# EAGLE library part SM08B-ZESS-TB (library senseye)
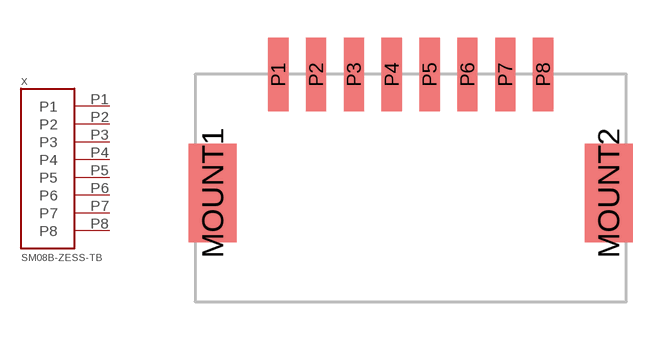
[diagram p4: symbol with the pads of SM08B_8PIN_SMD; footprint SM08B_8PIN_SMD]

Designator prefix X

## SM08B-ZESS-TB  [SM08B_8PIN_SMD]
P1  P1
P2  P2
P3  P3
P4  P4
P5  P5
P6  P6
P7  P7
P8  P8

## Footprint SM08B_8PIN_SMD (pad centres in mm)
smd 1.9 x 3.9: MOUNT1 -7.85,-4.7; MOUNT2 7.85,-4.7
smd 0.8 x 2.9: P1 -5.25,0; P2 -3.75,0; P3 -2.25,0; P4 -0.75,0; P5 0.75,0; P6 2.25,0; P7 3.75,0; P8 5.25,0